# Altium footprint library PcbLib1.PcbLib: 18 footprints (part 2 of 2)
Each footprint in its own frame and in the unit in brackets; x right, y up, seen from the top. Pads: shape width x height; smd on the part's side, far side on the other; paste and mask are expansions set on the pad; w line width, h text height; cw(c..) or ccw(c..) is an arc to the next point about the centre after c.
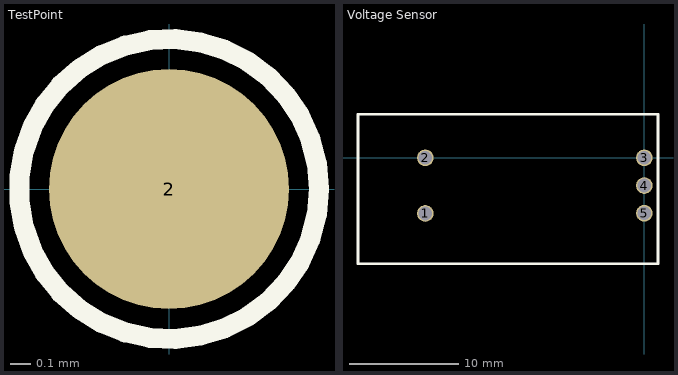
[diagram p1: the footprints below, top view; thin cyan lines are the x and y axes]

## TestPoint [mm]
pads (1):
  round 1.2 smd paste-0.6: 2(0,0)
Top Overlay:
  circle w0.1: c0,0 r0.75
3D body: height 0.03, standoff 0, extent -0.6,-0.6 0.6,0.6

## Voltage Sensor [mil]
pads (5):
  round 60 hole 49.21: 1(-790.35,-200.79) 2(-790.35,0) 3(0,0) 4(0,-100) 5(0,-200)
Top Overlay:
  lines w10: -1033.46,-381.89 49.21,-381.89 49.21,-378.94 49.21,156.96 -1033.46,156.96 -1033.46,-379.92 -1033.46,-381.89